# EAGLE library part MAX1044 (library EELE_465)
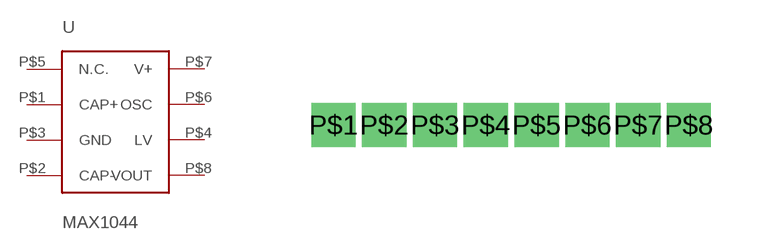
[diagram p3: symbol with the pads of MAX1044; footprint MAX1044]

Designator prefix -

## MAX1044  [MAX1044]
P$1  CAP+
P$2  CAP-
P$3  GND
P$4  LV
P$5  N.C.
P$6  OSC
P$7  V+
P$8  VOUT

## Footprint MAX1044 (pad centres in mm)
drill 0.6 square: P$1 0,0; P$2 1.27,0; P$3 2.54,0; P$4 3.81,0; P$5 5.08,0; P$6 6.35,0; P$7 7.62,0; P$8 8.89,0